# Altium integrated library Analog Devices Operational Amplifiers.IntLib: 2102 symbols (part 38 of 70)
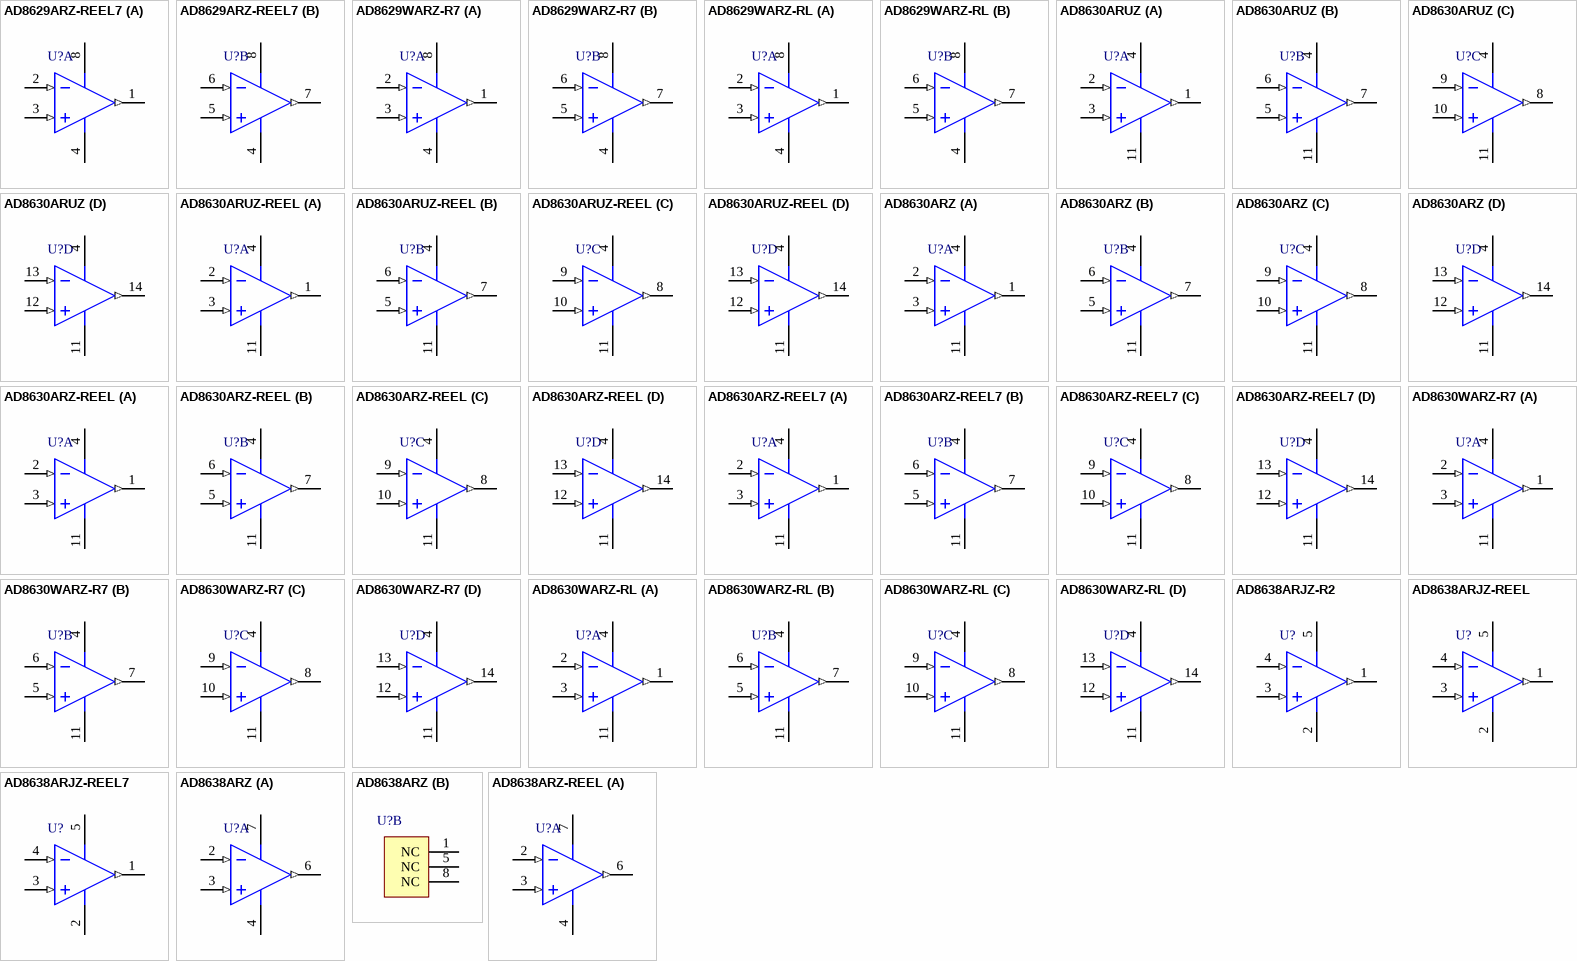
[diagram p151: symbols AD8629ARZ-REEL7 to AD8638ARZ-REEL]

## AD8629WARZ-RL
designator U?
Double Channel RRIO Operational Amplifier, 2.5 MHz BW, 1 V/us SR, Automotive, 8-pin SOIC (R-8), Reel; Generic Part Number: AD8629; Manufacturer: Analog Devices; PartNumber: AD8629WARZ-RL; Amplifiers Per Package: 2; Automotive Qualified: Yes; Input Bias Current: 30pA; Input Offset Voltage: 1uV; Iq/Amp: 1.1mA; Slew Rate: 1V/us; Small Signal Bandwidth: 2.5MHz; V Span Max: 6V; V Span Min: 2.7V; DatasheetVersion: Rev. I; PackageVersion: 060506-A; PackageReference: R-8; PackageDescription: 8-Pin Standard Small Outline Package, Body 3.9 x 4.9 mm, Pitch 1.27 mm; Supplier 1: Digi-Key; Supplier Part Number 1: AD8629WARZ-RL-ND; Mounting Technology: Surface Mount; Code_JEDEC: MS-012-AA; ComponentLink1Description: Manufacturer URL; ComponentLink1URL: http://www.analog.com/en/index.html; ComponentLink2Description: Datasheet; ComponentLink2URL: http://www.analog.com/static/imported-files/data_sheets/AD8628_8629_8630.pdf; ComponentLink3Description: Package Specification; ComponentLink3URL: http://www.analog.com/static/imported-files/packages/PKG_PDF/SOIC_Narrow%20(R)/R_8.pdf; ComponentLink4Description: Reference Circuit; ComponentLink4URL: http://www.analog.com/en/all-operational-amplifiers-op-amps/operational-amplifiers-op-amps/ad8629/products/product.html#product-recommendations
footprint ADI-R-8_N (SOIC, 8-Leads, Body 4.9x3.9mm, Pitch 1.27mm, IPC Medium Density)
footprint ADI-R-8_L (SOIC, 8-Leads, Body 4.9x3.9mm, Pitch 1.27mm, IPC High Density)
footprint ADI-R-8_M (SOIC, 8-Leads, Body 4.9x3.9mm, Pitch 1.27mm, IPC Low Density)
pins on every part: 4 -V (power), 8 +V (power)
part A pins: 1 OUT A (out), 2 -IN A (in), 3 +IN A (in)
part B pins: 5 +IN B (in), 6 -IN B (in), 7 OUT B (out)

## AD8630ARUZ
designator U?
Quad Channel RRIO Operational Amplifier, 2.5 MHz BW, 1 V/us SR, Industrial, 14-pin SOP (RU-14), Tube; Generic Part Number: AD8630; Manufacturer: Analog Devices; PartNumber: AD8630ARUZ; Amplifiers Per Package: 4; Automotive Qualified: Yes; Input Bias Current: 100pA; Input Offset Voltage: 1uV; Iq/Amp: 1.1mA; Slew Rate: 1V/us; Small Signal Bandwidth: 2.5MHz; V Span Max: 6V; V Span Min: 2.7V; DatasheetVersion: Rev. I; PackageReference: RU-14; PackageDescription: 14-Pin Thin Shrink Small Outline Package, Body 5 x 4.4 mm, Pitch 0.65 mm; Supplier 1: Digi-Key; Supplier Part Number 1: AD8630ARUZ-ND; Supplier 2: Farnell; Supplier Part Number 2: 1078274; Supplier 3: Newark; Supplier Part Number 3: 19M0982; Mounting Technology: Surface Mount; Code_JEDEC: MO-153AB-1; ComponentLink1Description: Manufacturer URL; ComponentLink1URL: http://www.analog.com/en/index.html; ComponentLink2Description: Datasheet; ComponentLink2URL: http://www.analog.com/static/imported-files/data_sheets/AD8628_8629_8630.pdf; ComponentLink3Description: Package Specification; ComponentLink3URL: http://www.analog.com/static/imported-files/packages/36057385283879153717235186773RU14.pdf
footprint ADI-RU-14_N (SOP, 14-Leads, Body 5x4.4mm, Pitch 0.65mm, IPC Medium Density)
footprint ADI-RU-14_L (SOP, 14-Leads, Body 5x4.4mm, Pitch 0.65mm, IPC High Density)
footprint ADI-RU-14_M (SOP, 14-Leads, Body 5x4.4mm, Pitch 0.65mm, IPC Low Density)
pins on every part: 4 +V (power), 11 -V (power)
part A pins: 1 OUT A (out), 2 -IN A (in), 3 +IN A (in)
part B pins: 5 +IN B (in), 6 -IN B (in), 7 OUT B (out)
part C pins: 8 OUT C (out), 9 -IN C (in), 10 +IN C (in)
part D pins: 12 +IN D (in), 13 -IN D (in), 14 OUT D (out)

## AD8630ARUZ-REEL
designator U?
Quad Channel RRIO Operational Amplifier, 2.5 MHz BW, 1 V/us SR, Industrial, 14-pin SOP (RU-14), Reel; Generic Part Number: AD8630; Manufacturer: Analog Devices; PartNumber: AD8630ARUZ-REEL; Amplifiers Per Package: 4; Automotive Qualified: Yes; Input Bias Current: 100pA; Input Offset Voltage: 1uV; Iq/Amp: 1.1mA; Slew Rate: 1V/us; Small Signal Bandwidth: 2.5MHz; V Span Max: 6V; V Span Min: 2.7V; DatasheetVersion: Rev. I; PackageReference: RU-14; PackageDescription: 14-Pin Thin Shrink Small Outline Package, Body 5 x 4.4 mm, Pitch 0.65 mm; Supplier 1: Digi-Key; Supplier Part Number 1: AD8630ARUZ-REELTR-ND; Supplier 2: Digi-Key; Supplier Part Number 2: AD8630ARUZ-REELCT-ND; Supplier 3: Digi-Key; Supplier Part Number 3: AD8630ARUZ-REELDKR-ND; Supplier 4: Newark; Supplier Part Number 4: 59K7009; Mounting Technology: Surface Mount; Code_JEDEC: MO-153AB-1; ComponentLink1Description: Manufacturer URL; ComponentLink1URL: http://www.analog.com/en/index.html; ComponentLink2Description: Datasheet; ComponentLink2URL: http://www.analog.com/static/imported-files/data_sheets/AD8628_8629_8630.pdf; ComponentLink3Description: Package Specification; ComponentLink3URL: http://www.analog.com/static/imported-files/packages/36057385283879153717235186773RU14.pdf
footprint ADI-RU-14_N (SOP, 14-Leads, Body 5x4.4mm, Pitch 0.65mm, IPC Medium Density)
footprint ADI-RU-14_L (SOP, 14-Leads, Body 5x4.4mm, Pitch 0.65mm, IPC High Density)
footprint ADI-RU-14_M (SOP, 14-Leads, Body 5x4.4mm, Pitch 0.65mm, IPC Low Density)
pins on every part: 4 +V (power), 11 -V (power)
part A pins: 1 OUT A (out), 2 -IN A (in), 3 +IN A (in)
part B pins: 5 +IN B (in), 6 -IN B (in), 7 OUT B (out)
part C pins: 8 OUT C (out), 9 -IN C (in), 10 +IN C (in)
part D pins: 12 +IN D (in), 13 -IN D (in), 14 OUT D (out)

## AD8630ARZ
designator U?
Quad Channel RRIO Operational Amplifier, 2.5 MHz BW, 1 V/us SR, Industrial, 14-pin SOIC (R-14), Tube; Generic Part Number: AD8630; Manufacturer: Analog Devices; PartNumber: AD8630ARZ; Amplifiers Per Package: 4; Automotive Qualified: Yes; Input Bias Current: 100pA; Input Offset Voltage: 1uV; Iq/Amp: 1.1mA; Slew Rate: 1V/us; Small Signal Bandwidth: 2.5MHz; V Span Max: 6V; V Span Min: 2.7V; DatasheetVersion: Rev. I; PackageVersion: 060606-A; PackageReference: R-14; PackageDescription: 14-Pin Standard Small Outline Package, Body 8.65 x 3.9 mm, Pitch 1.27 mm; Supplier 1: Digi-Key; Supplier Part Number 1: AD8630ARZ-ND; Supplier 2: Farnell; Supplier Part Number 2: 1078275; Supplier 3: Newark; Supplier Part Number 3: 19M0983; Mounting Technology: Surface Mount; Code_JEDEC: MS-012-AB; ComponentLink1Description: Manufacturer URL; ComponentLink1URL: http://www.analog.com/en/index.html; ComponentLink2Description: Datasheet; ComponentLink2URL: http://www.analog.com/static/imported-files/data_sheets/AD8628_8629_8630.pdf; ComponentLink3Description: Package Specification; ComponentLink3URL: http://www.analog.com/static/imported-files/packages/PKG_PDF/SOIC_Narrow%20(R)/R_14.pdf
footprint ADI-R-14_N (SOIC, 14-Leads, Body 8.65x3.9mm, Pitch 1.27mm, IPC Medium Density)
footprint ADI-R-14_L (SOIC, 14-Leads, Body 8.65x3.9mm, Pitch 1.27mm, IPC High Density)
footprint ADI-R-14_M (SOIC, 14-Leads, Body 8.65x3.9mm, Pitch 1.27mm, IPC Low Density)
pins on every part: 4 +V (power), 11 -V (power)
part A pins: 1 OUT A (out), 2 -IN A (in), 3 +IN A (in)
part B pins: 5 +IN B (in), 6 -IN B (in), 7 OUT B (out)
part C pins: 8 OUT C (out), 9 -IN C (in), 10 +IN C (in)
part D pins: 12 +IN D (in), 13 -IN D (in), 14 OUT D (out)

## AD8630ARZ-REEL
designator U?
Quad Channel RRIO Operational Amplifier, 2.5 MHz BW, 1 V/us SR, Industrial, 14-pin SOIC (R-14), Reel; Generic Part Number: AD8630; Manufacturer: Analog Devices; PartNumber: AD8630ARZ-REEL; Amplifiers Per Package: 4; Automotive Qualified: Yes; Input Bias Current: 100pA; Input Offset Voltage: 1uV; Iq/Amp: 1.1mA; Slew Rate: 1V/us; Small Signal Bandwidth: 2.5MHz; V Span Max: 6V; V Span Min: 2.7V; DatasheetVersion: Rev. I; PackageVersion: 060606-A; PackageReference: R-14; PackageDescription: 14-Pin Standard Small Outline Package, Body 8.65 x 3.9 mm, Pitch 1.27 mm; Supplier 1: Digi-Key; Supplier Part Number 1: AD8630ARZ-REEL-ND; Mounting Technology: Surface Mount; Code_JEDEC: MS-012-AB; ComponentLink1Description: Manufacturer URL; ComponentLink1URL: http://www.analog.com/en/index.html; ComponentLink2Description: Datasheet; ComponentLink2URL: http://www.analog.com/static/imported-files/data_sheets/AD8628_8629_8630.pdf; ComponentLink3Description: Package Specification; ComponentLink3URL: http://www.analog.com/static/imported-files/packages/PKG_PDF/SOIC_Narrow%20(R)/R_14.pdf
footprint ADI-R-14_N (SOIC, 14-Leads, Body 8.65x3.9mm, Pitch 1.27mm, IPC Medium Density)
footprint ADI-R-14_L (SOIC, 14-Leads, Body 8.65x3.9mm, Pitch 1.27mm, IPC High Density)
footprint ADI-R-14_M (SOIC, 14-Leads, Body 8.65x3.9mm, Pitch 1.27mm, IPC Low Density)
pins on every part: 4 +V (power), 11 -V (power)
part A pins: 1 OUT A (out), 2 -IN A (in), 3 +IN A (in)
part B pins: 5 +IN B (in), 6 -IN B (in), 7 OUT B (out)
part C pins: 8 OUT C (out), 9 -IN C (in), 10 +IN C (in)
part D pins: 12 +IN D (in), 13 -IN D (in), 14 OUT D (out)

## AD8630ARZ-REEL7
designator U?
Quad Channel RRIO Operational Amplifier, 2.5 MHz BW, 1 V/us SR, Industrial, 14-pin SOIC (R-14), Reel; Generic Part Number: AD8630; Manufacturer: Analog Devices; PartNumber: AD8630ARZ-REEL7; Amplifiers Per Package: 4; Automotive Qualified: Yes; Input Bias Current: 100pA; Input Offset Voltage: 1uV; Iq/Amp: 1.1mA; Slew Rate: 1V/us; Small Signal Bandwidth: 2.5MHz; V Span Max: 6V; V Span Min: 2.7V; DatasheetVersion: Rev. I; PackageVersion: 060606-A; PackageReference: R-14; PackageDescription: 14-Pin Standard Small Outline Package, Body 8.65 x 3.9 mm, Pitch 1.27 mm; Supplier 1: Digi-Key; Supplier Part Number 1: AD8630ARZ-REEL7TR-ND; Supplier 2: Digi-Key; Supplier Part Number 2: AD8630ARZ-REEL7CT-ND; Supplier 3: Digi-Key; Supplier Part Number 3: AD8630ARZ-REEL7DKR-ND; Supplier 4: Newark; Supplier Part Number 4: 59K7012; Mounting Technology: Surface Mount; Code_JEDEC: MS-012-AB; ComponentLink1Description: Manufacturer URL; ComponentLink1URL: http://www.analog.com/en/index.html; ComponentLink2Description: Datasheet; ComponentLink2URL: http://www.analog.com/static/imported-files/data_sheets/AD8628_8629_8630.pdf; ComponentLink3Description: Package Specification; ComponentLink3URL: http://www.analog.com/static/imported-files/packages/PKG_PDF/SOIC_Narrow%20(R)/R_14.pdf
footprint ADI-R-14_N (SOIC, 14-Leads, Body 8.65x3.9mm, Pitch 1.27mm, IPC Medium Density)
footprint ADI-R-14_L (SOIC, 14-Leads, Body 8.65x3.9mm, Pitch 1.27mm, IPC High Density)
footprint ADI-R-14_M (SOIC, 14-Leads, Body 8.65x3.9mm, Pitch 1.27mm, IPC Low Density)
pins on every part: 4 +V (power), 11 -V (power)
part A pins: 1 OUT A (out), 2 -IN A (in), 3 +IN A (in)
part B pins: 5 +IN B (in), 6 -IN B (in), 7 OUT B (out)
part C pins: 8 OUT C (out), 9 -IN C (in), 10 +IN C (in)
part D pins: 12 +IN D (in), 13 -IN D (in), 14 OUT D (out)

## AD8630WARZ-R7
designator U?
Quad Channel RRIO Operational Amplifier, 2.5 MHz BW, 1 V/us SR, Automotive, 14-pin SOIC (R-14), Reel; Generic Part Number: AD8630; Manufacturer: Analog Devices; PartNumber: AD8630WARZ-R7; Amplifiers Per Package: 4; Automotive Qualified: Yes; Input Bias Current: 100pA; Input Offset Voltage: 1uV; Iq/Amp: 1.1mA; Slew Rate: 1V/us; Small Signal Bandwidth: 2.5MHz; V Span Max: 6V; V Span Min: 2.7V; DatasheetVersion: Rev. I; PackageVersion: 060606-A; PackageReference: R-14; PackageDescription: 14-Pin Standard Small Outline Package, Body 8.65 x 3.9 mm, Pitch 1.27 mm; Supplier 1: Digi-Key; Supplier Part Number 1: AD8630WARZ-R7TR-ND; Supplier 2: Digi-Key; Supplier Part Number 2: AD8630WARZ-R7CT-ND; Supplier 3: Digi-Key; Supplier Part Number 3: AD8630WARZ-R7DKR-ND; Supplier 4: Newark; Supplier Part Number 4: 51R0740; Mounting Technology: Surface Mount; Code_JEDEC: MS-012-AB; ComponentLink1Description: Manufacturer URL; ComponentLink1URL: http://www.analog.com/en/index.html; ComponentLink2Description: Datasheet; ComponentLink2URL: http://www.analog.com/static/imported-files/data_sheets/AD8628_8629_8630.pdf; ComponentLink3Description: Package Specification; ComponentLink3URL: http://www.analog.com/static/imported-files/packages/PKG_PDF/SOIC_Narrow%20(R)/R_14.pdf
footprint ADI-R-14_N (SOIC, 14-Leads, Body 8.65x3.9mm, Pitch 1.27mm, IPC Medium Density)
footprint ADI-R-14_L (SOIC, 14-Leads, Body 8.65x3.9mm, Pitch 1.27mm, IPC High Density)
footprint ADI-R-14_M (SOIC, 14-Leads, Body 8.65x3.9mm, Pitch 1.27mm, IPC Low Density)
pins on every part: 4 +V (power), 11 -V (power)
part A pins: 1 OUT A (out), 2 -IN A (in), 3 +IN A (in)
part B pins: 5 +IN B (in), 6 -IN B (in), 7 OUT B (out)
part C pins: 8 OUT C (out), 9 -IN C (in), 10 +IN C (in)
part D pins: 12 +IN D (in), 13 -IN D (in), 14 OUT D (out)

## AD8630WARZ-RL
designator U?
Quad Channel RRIO Operational Amplifier, 2.5 MHz BW, 1 V/us SR, Automotive, 14-pin SOIC (R-14), Reel; Generic Part Number: AD8630; Manufacturer: Analog Devices; PartNumber: AD8630WARZ-RL; Amplifiers Per Package: 4; Automotive Qualified: Yes; Input Bias Current: 100pA; Input Offset Voltage: 1uV; Iq/Amp: 1.1mA; Slew Rate: 1V/us; Small Signal Bandwidth: 2.5MHz; V Span Max: 6V; V Span Min: 2.7V; DatasheetVersion: Rev. I; PackageVersion: 060606-A; PackageReference: R-14; PackageDescription: 14-Pin Standard Small Outline Package, Body 8.65 x 3.9 mm, Pitch 1.27 mm; Supplier 1: Digi-Key; Supplier Part Number 1: AD8630WARZ-RL-ND; Supplier 2: Newark; Supplier Part Number 2: 51R0739; Mounting Technology: Surface Mount; Code_JEDEC: MS-012-AB; ComponentLink1Description: Manufacturer URL; ComponentLink1URL: http://www.analog.com/en/index.html; ComponentLink2Description: Datasheet; ComponentLink2URL: http://www.analog.com/static/imported-files/data_sheets/AD8628_8629_8630.pdf; ComponentLink3Description: Package Specification; ComponentLink3URL: http://www.analog.com/static/imported-files/packages/PKG_PDF/SOIC_Narrow%20(R)/R_14.pdf
footprint ADI-R-14_N (SOIC, 14-Leads, Body 8.65x3.9mm, Pitch 1.27mm, IPC Medium Density)
footprint ADI-R-14_L (SOIC, 14-Leads, Body 8.65x3.9mm, Pitch 1.27mm, IPC High Density)
footprint ADI-R-14_M (SOIC, 14-Leads, Body 8.65x3.9mm, Pitch 1.27mm, IPC Low Density)
pins on every part: 4 +V (power), 11 -V (power)
part A pins: 1 OUT A (out), 2 -IN A (in), 3 +IN A (in)
part B pins: 5 +IN B (in), 6 -IN B (in), 7 OUT B (out)
part C pins: 8 OUT C (out), 9 -IN C (in), 10 +IN C (in)
part D pins: 12 +IN D (in), 13 -IN D (in), 14 OUT D (out)

## AD8638ARJZ-R2
designator U?
Single Channel Rail-to-Rail Operational Amplifier, 1.5 MHz BW, 2 V/us SR, Industrial, 5-pin SOT23 (RJ-5), Reel; Generic Part Number: AD8638; Manufacturer: Analog Devices; PartNumber: AD8638ARJZ-R2; Amplifiers Per Package: 1; Input Bias Current: 1pA; Input Offset Voltage: 3uV; Iq/Amp: 1.5mA; Slew Rate: 2V/us; Small Signal Bandwidth: 1.5MHz; V Span Max: 16V; V Span Min: 5V; DatasheetVersion: Rev. F; PackageVersion: 121608-A; PackageReference: RJ-5; PackageDescription: 5-Pin Small Outline Transistor Package, Body 2.9 x 1.6 mm, Pitch 0.95 mm; Supplier 1: Digi-Key; Supplier Part Number 1: AD8638ARJZ-R2TR-ND; Supplier 2: Digi-Key; Supplier Part Number 2: AD8638ARJZ-R2CT-ND; Supplier 3: Digi-Key; Supplier Part Number 3: AD8638ARJZ-R2DKR-ND; Supplier 4: Farnell; Supplier Part Number 4: 1701178; Supplier 5: Newark; Supplier Part Number 5: 89M5025; Mounting Technology: Surface Mount; Code_JEDEC: MO-178-AA; ComponentLink1Description: Manufacturer URL; ComponentLink1URL: http://www.analog.com/en/index.html; ComponentLink2Description: Datasheet; ComponentLink2URL: http://www.analog.com/static/imported-files/data_sheets/AD8638_8639.pdf; ComponentLink3Description: Package Specification; ComponentLink3URL: http://www.analog.com/static/imported-files/packages/PKG_PDF/SOT-23(RJ)/RJ_5.pdf; ComponentLink4Description: Reference Circuit; ComponentLink4URL: http://www.analog.com/en/all-operational-amplifiers-op-amps/operational-amplifiers-op-amps/ad8638/products/product.html#product-recommendations
footprint ADI-RJ-5_N (SOT-23, 5-Leads, Body 2.9x1.6mm, Pitch 0.95mm, IPC Medium Density)
footprint ADI-RJ-5_L (SOT-23, 5-Leads, Body 2.9x1.6mm, Pitch 0.95mm, IPC High Density)
footprint ADI-RJ-5_M (SOT-23, 5-Leads, Body 2.9x1.6mm, Pitch 0.95mm, IPC Low Density)
pins: 1 OUT (out), 2 -V (power), 3 +IN (in), 4 -IN (in), 5 +V (power)

## AD8638ARJZ-REEL
designator U?
Single Channel Rail-to-Rail Operational Amplifier, 1.5 MHz BW, 2 V/us SR, Industrial, 5-pin SOT23 (RJ-5), Reel; Generic Part Number: AD8638; Manufacturer: Analog Devices; PartNumber: AD8638ARJZ-REEL; Amplifiers Per Package: 1; Input Bias Current: 1pA; Input Offset Voltage: 3uV; Iq/Amp: 1.5mA; Slew Rate: 2V/us; Small Signal Bandwidth: 1.5MHz; V Span Max: 16V; V Span Min: 5V; DatasheetVersion: Rev. F; PackageVersion: 121608-A; PackageReference: RJ-5; PackageDescription: 5-Pin Small Outline Transistor Package, Body 2.9 x 1.6 mm, Pitch 0.95 mm; Supplier 1: Digi-Key; Supplier Part Number 1: AD8638ARJZ-REEL-ND; Mounting Technology: Surface Mount; Code_JEDEC: MO-178-AA; ComponentLink1Description: Manufacturer URL; ComponentLink1URL: http://www.analog.com/en/index.html; ComponentLink2Description: Datasheet; ComponentLink2URL: http://www.analog.com/static/imported-files/data_sheets/AD8638_8639.pdf; ComponentLink3Description: Package Specification; ComponentLink3URL: http://www.analog.com/static/imported-files/packages/PKG_PDF/SOT-23(RJ)/RJ_5.pdf; ComponentLink4Description: Reference Circuit; ComponentLink4URL: http://www.analog.com/en/all-operational-amplifiers-op-amps/operational-amplifiers-op-amps/ad8638/products/product.html#product-recommendations
footprint ADI-RJ-5_N (SOT-23, 5-Leads, Body 2.9x1.6mm, Pitch 0.95mm, IPC Medium Density)
footprint ADI-RJ-5_L (SOT-23, 5-Leads, Body 2.9x1.6mm, Pitch 0.95mm, IPC High Density)
footprint ADI-RJ-5_M (SOT-23, 5-Leads, Body 2.9x1.6mm, Pitch 0.95mm, IPC Low Density)
pins: 1 OUT (out), 2 -V (power), 3 +IN (in), 4 -IN (in), 5 +V (power)

## AD8638ARJZ-REEL7
designator U?
Single Channel Rail-to-Rail Operational Amplifier, 1.5 MHz BW, 2 V/us SR, Industrial, 5-pin SOT23 (RJ-5), Reel; Generic Part Number: AD8638; Manufacturer: Analog Devices; PartNumber: AD8638ARJZ-REEL7; Amplifiers Per Package: 1; Input Bias Current: 1pA; Input Offset Voltage: 3uV; Iq/Amp: 1.5mA; Slew Rate: 2V/us; Small Signal Bandwidth: 1.5MHz; V Span Max: 16V; V Span Min: 5V; DatasheetVersion: Rev. F; PackageVersion: 121608-A; PackageReference: RJ-5; PackageDescription: 5-Pin Small Outline Transistor Package, Body 2.9 x 1.6 mm, Pitch 0.95 mm; Supplier 1: Digi-Key; Supplier Part Number 1: AD8638ARJZ-REEL7TR-ND; Supplier 2: Digi-Key; Supplier Part Number 2: AD8638ARJZ-REEL7CT-ND; Supplier 3: Digi-Key; Supplier Part Number 3: AD8638ARJZ-REEL7DKR-ND; Supplier 4: Newark; Supplier Part Number 4: 64M7590; Mounting Technology: Surface Mount; Code_JEDEC: MO-178-AA; ComponentLink1Description: Manufacturer URL; ComponentLink1URL: http://www.analog.com/en/index.html; ComponentLink2Description: Datasheet; ComponentLink2URL: http://www.analog.com/static/imported-files/data_sheets/AD8638_8639.pdf; ComponentLink3Description: Package Specification; ComponentLink3URL: http://www.analog.com/static/imported-files/packages/PKG_PDF/SOT-23(RJ)/RJ_5.pdf; ComponentLink4Description: Reference Circuit; ComponentLink4URL: http://www.analog.com/en/all-operational-amplifiers-op-amps/operational-amplifiers-op-amps/ad8638/products/product.html#product-recommendations
footprint ADI-RJ-5_N (SOT-23, 5-Leads, Body 2.9x1.6mm, Pitch 0.95mm, IPC Medium Density)
footprint ADI-RJ-5_L (SOT-23, 5-Leads, Body 2.9x1.6mm, Pitch 0.95mm, IPC High Density)
footprint ADI-RJ-5_M (SOT-23, 5-Leads, Body 2.9x1.6mm, Pitch 0.95mm, IPC Low Density)
pins: 1 OUT (out), 2 -V (power), 3 +IN (in), 4 -IN (in), 5 +V (power)

## AD8638ARZ
designator U?
Single Channel Rail-to-Rail Operational Amplifier, 1.5 MHz BW, 2 V/us SR, Industrial, 8-pin SOIC (R-8), Tube; Generic Part Number: AD8638; Manufacturer: Analog Devices; PartNumber: AD8638ARZ; Amplifiers Per Package: 1; Input Bias Current: 1pA; Input Offset Voltage: 3uV; Iq/Amp: 1.5mA; Slew Rate: 2V/us; Small Signal Bandwidth: 1.5MHz; V Span Max: 16V; V Span Min: 5V; DatasheetVersion: Rev. F; PackageVersion: 060506-A; PackageReference: R-8; PackageDescription: 8-Pin Standard Small Outline Package, Body 3.9 x 4.9 mm, Pitch 1.27 mm; Supplier 1: Digi-Key; Supplier Part Number 1: AD8638ARZ-ND; Supplier 2: Farnell; Supplier Part Number 2: 1607239; Supplier 3: Farnell; Supplier Part Number 3: 2119623; Supplier 4: Newark; Supplier Part Number 4: 64M7591; Mounting Technology: Surface Mount; Code_JEDEC: MS-012-AA; ComponentLink1Description: Manufacturer URL; ComponentLink1URL: http://www.analog.com/en/index.html; ComponentLink2Description: Datasheet; ComponentLink2URL: http://www.analog.com/static/imported-files/data_sheets/AD8638_8639.pdf; ComponentLink3Description: Package Specification; ComponentLink3URL: http://www.analog.com/static/imported-files/packages/PKG_PDF/SOIC_Narrow%20(R)/R_8.pdf; ComponentLink4Description: Reference Circuit; ComponentLink4URL: http://www.analog.com/en/all-operational-amplifiers-op-amps/operational-amplifiers-op-amps/ad8638/products/product.html#product-recommendations
footprint ADI-R-8_N (SOIC, 8-Leads, Body 4.9x3.9mm, Pitch 1.27mm, IPC Medium Density)
footprint ADI-R-8_L (SOIC, 8-Leads, Body 4.9x3.9mm, Pitch 1.27mm, IPC High Density)
footprint ADI-R-8_M (SOIC, 8-Leads, Body 4.9x3.9mm, Pitch 1.27mm, IPC Low Density)
part A pins: 2 -IN (in), 3 +IN (in), 4 -V (power), 6 OUT (out), 7 +V (power)
part B pins: 1 NC, 5 NC, 8 NC

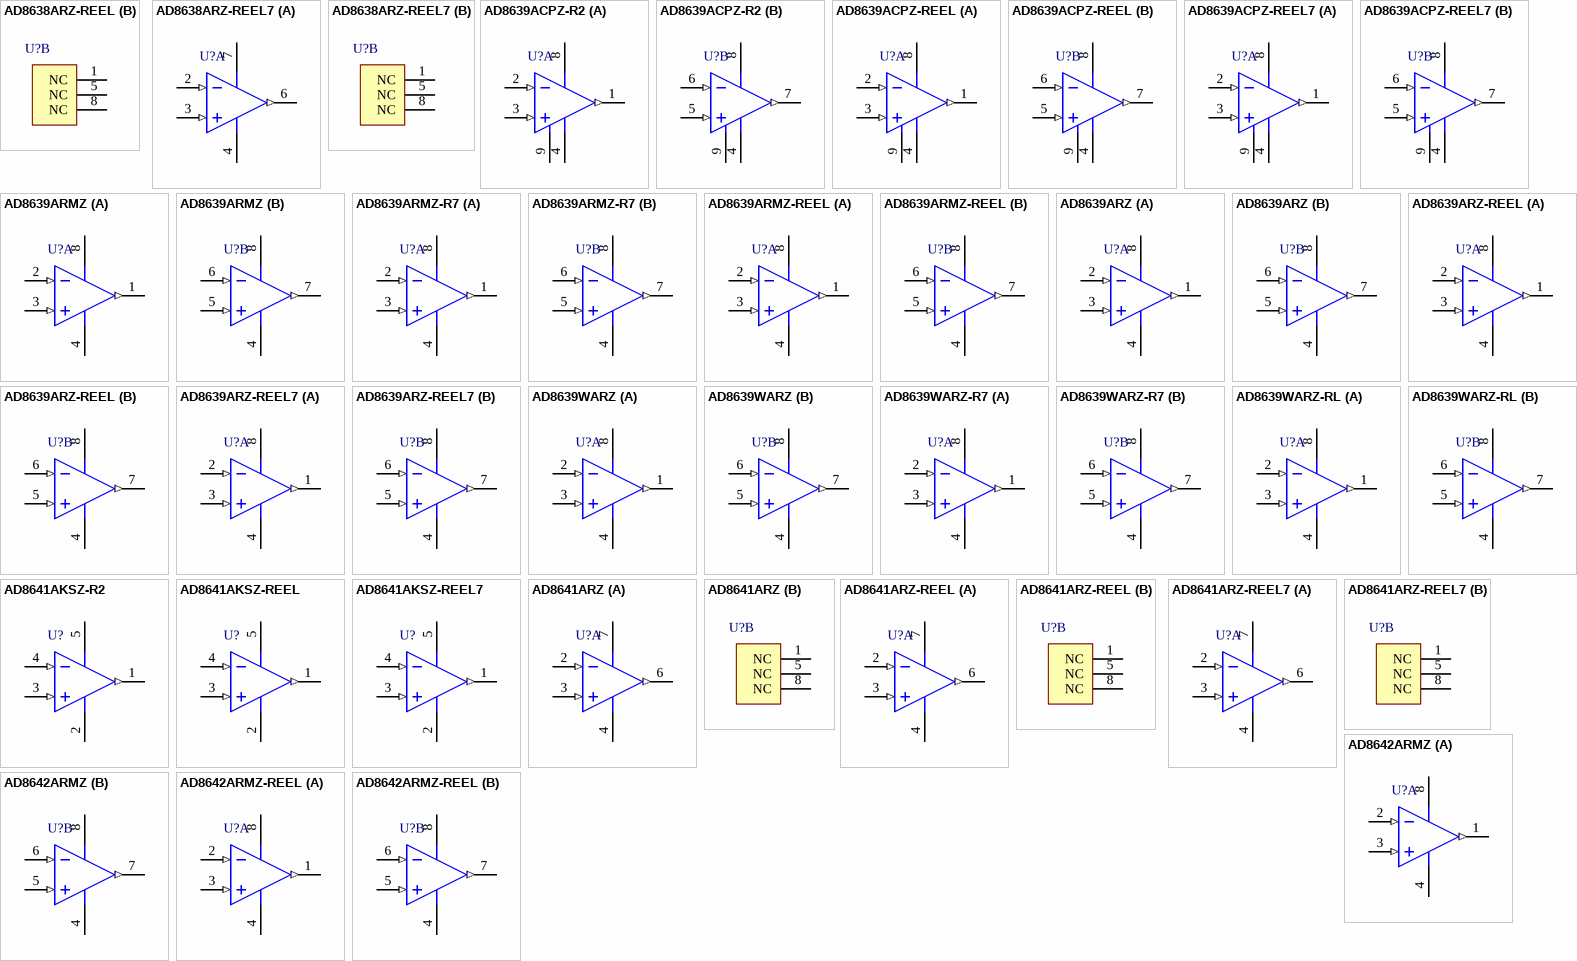
[diagram p58: symbols AD8638ARZ-REEL to AD8642ARMZ-REEL]

## AD8638ARZ-REEL
designator U?
Single Channel Rail-to-Rail Operational Amplifier, 1.5 MHz BW, 2 V/us SR, Industrial, 8-pin SOIC (R-8), Reel; Generic Part Number: AD8638; Manufacturer: Analog Devices; PartNumber: AD8638ARZ-REEL; Amplifiers Per Package: 1; Input Bias Current: 1pA; Input Offset Voltage: 3uV; Iq/Amp: 1.5mA; Slew Rate: 2V/us; Small Signal Bandwidth: 1.5MHz; V Span Max: 16V; V Span Min: 5V; DatasheetVersion: Rev. F; PackageVersion: 060506-A; PackageReference: R-8; PackageDescription: 8-Pin Standard Small Outline Package, Body 3.9 x 4.9 mm, Pitch 1.27 mm; Supplier 1: Digi-Key; Supplier Part Number 1: AD8638ARZ-REEL-ND; Mounting Technology: Surface Mount; Code_JEDEC: MS-012-AA; ComponentLink1Description: Manufacturer URL; ComponentLink1URL: http://www.analog.com/en/index.html; ComponentLink2Description: Datasheet; ComponentLink2URL: http://www.analog.com/static/imported-files/data_sheets/AD8638_8639.pdf; ComponentLink3Description: Package Specification; ComponentLink3URL: http://www.analog.com/static/imported-files/packages/PKG_PDF/SOIC_Narrow%20(R)/R_8.pdf; ComponentLink4Description: Reference Circuit; ComponentLink4URL: http://www.analog.com/en/all-operational-amplifiers-op-amps/operational-amplifiers-op-amps/ad8638/products/product.html#product-recommendations
footprint ADI-R-8_N (SOIC, 8-Leads, Body 4.9x3.9mm, Pitch 1.27mm, IPC Medium Density)
footprint ADI-R-8_L (SOIC, 8-Leads, Body 4.9x3.9mm, Pitch 1.27mm, IPC High Density)
footprint ADI-R-8_M (SOIC, 8-Leads, Body 4.9x3.9mm, Pitch 1.27mm, IPC Low Density)
part A pins: 2 -IN (in), 3 +IN (in), 4 -V (power), 6 OUT (out), 7 +V (power)
part B pins: 1 NC, 5 NC, 8 NC

## AD8638ARZ-REEL7
designator U?
Single Channel Rail-to-Rail Operational Amplifier, 1.5 MHz BW, 2 V/us SR, Industrial, 8-pin SOIC (R-8), Reel; Generic Part Number: AD8638; Manufacturer: Analog Devices; PartNumber: AD8638ARZ-REEL7; Amplifiers Per Package: 1; Input Bias Current: 1pA; Input Offset Voltage: 3uV; Iq/Amp: 1.5mA; Slew Rate: 2V/us; Small Signal Bandwidth: 1.5MHz; V Span Max: 16V; V Span Min: 5V; DatasheetVersion: Rev. F; PackageVersion: 060506-A; PackageReference: R-8; PackageDescription: 8-Pin Standard Small Outline Package, Body 3.9 x 4.9 mm, Pitch 1.27 mm; Supplier 1: Digi-Key; Supplier Part Number 1: AD8638ARZ-REEL7TR-ND; Supplier 2: Digi-Key; Supplier Part Number 2: AD8638ARZ-REEL7CT-ND; Supplier 3: Digi-Key; Supplier Part Number 3: AD8638ARZ-REEL7DKR-ND; Mounting Technology: Surface Mount; Code_JEDEC: MS-012-AA; ComponentLink1Description: Manufacturer URL; ComponentLink1URL: http://www.analog.com/en/index.html; ComponentLink2Description: Datasheet; ComponentLink2URL: http://www.analog.com/static/imported-files/data_sheets/AD8638_8639.pdf; ComponentLink3Description: Package Specification; ComponentLink3URL: http://www.analog.com/static/imported-files/packages/PKG_PDF/SOIC_Narrow%20(R)/R_8.pdf; ComponentLink4Description: Reference Circuit; ComponentLink4URL: http://www.analog.com/en/all-operational-amplifiers-op-amps/operational-amplifiers-op-amps/ad8638/products/product.html#product-recommendations
footprint ADI-R-8_N (SOIC, 8-Leads, Body 4.9x3.9mm, Pitch 1.27mm, IPC Medium Density)
footprint ADI-R-8_L (SOIC, 8-Leads, Body 4.9x3.9mm, Pitch 1.27mm, IPC High Density)
footprint ADI-R-8_M (SOIC, 8-Leads, Body 4.9x3.9mm, Pitch 1.27mm, IPC Low Density)
part A pins: 2 -IN (in), 3 +IN (in), 4 -V (power), 6 OUT (out), 7 +V (power)
part B pins: 1 NC, 5 NC, 8 NC

## AD8639ACPZ-R2
designator U?
Double Channel Rail-to-Rail Operational Amplifier, 1.5 MHz BW, 2 V/us SR, Industrial, 8-pin SON (CP-8-5), Reel; Generic Part Number: AD8639; Manufacturer: Analog Devices; PartNumber: AD8639ACPZ-R2; Amplifiers Per Package: 2; Automotive Qualified: Yes; Input Bias Current: 1pA; Input Offset Voltage: 3uV; Iq/Amp: 1.5mA; Slew Rate: 2V/us; Small Signal Bandwidth: 1.5MHz; V Span Max: 16V; V Span Min: 5V; DatasheetVersion: Rev. F; PackageVersion: 031208-A; PackageReference: CP-8-5; PackageDescription: 8-Pin Lead Frame Chip Scale Package, Body 3 x 3 mm, Pitch 0.5 mm; Supplier 1: Digi-Key; Supplier Part Number 1: AD8639ACPZ-R2-ND; Mounting Technology: Surface Mount; ComponentLink1Description: Manufacturer URL; ComponentLink1URL: http://www.analog.com/en/index.html; ComponentLink2Description: Datasheet; ComponentLink2URL: http://www.analog.com/static/imported-files/data_sheets/AD8638_8639.pdf; ComponentLink3Description: Package Specification; ComponentLink3URL: http://www.analog.com/static/imported-files/packages/PKG_PDF/LFCSP(CP)/CP_8_5.pdf
footprint ADI-CP-8-5_V (SON, 8-Leads, Body 3x3mm, Pitch 0.5mm, Thermal Pad 1.74x2.38mm)
pins on every part: 4 -V (power), 8 +V (power), 9 EP (power)
part A pins: 1 OUT A (out), 2 -IN A (in), 3 +IN A (in)
part B pins: 5 +IN B (in), 6 -IN B (in), 7 OUT B (out)

## AD8639ACPZ-REEL
designator U?
Double Channel Rail-to-Rail Operational Amplifier, 1.5 MHz BW, 2 V/us SR, Industrial, 8-pin SON (CP-8-5), Reel; Generic Part Number: AD8639; Manufacturer: Analog Devices; PartNumber: AD8639ACPZ-REEL; Amplifiers Per Package: 2; Automotive Qualified: Yes; Input Bias Current: 1pA; Input Offset Voltage: 3uV; Iq/Amp: 1.5mA; Slew Rate: 2V/us; Small Signal Bandwidth: 1.5MHz; V Span Max: 16V; V Span Min: 5V; DatasheetVersion: Rev. F; PackageVersion: 031208-A; PackageReference: CP-8-5; PackageDescription: 8-Pin Lead Frame Chip Scale Package, Body 3 x 3 mm, Pitch 0.5 mm; Supplier 1: Digi-Key; Supplier Part Number 1: AD8639ACPZ-REEL-ND; Mounting Technology: Surface Mount; ComponentLink1Description: Manufacturer URL; ComponentLink1URL: http://www.analog.com/en/index.html; ComponentLink2Description: Datasheet; ComponentLink2URL: http://www.analog.com/static/imported-files/data_sheets/AD8638_8639.pdf; ComponentLink3Description: Package Specification; ComponentLink3URL: http://www.analog.com/static/imported-files/packages/PKG_PDF/LFCSP(CP)/CP_8_5.pdf
footprint ADI-CP-8-5_V (SON, 8-Leads, Body 3x3mm, Pitch 0.5mm, Thermal Pad 1.74x2.38mm)
pins on every part: 4 -V (power), 8 +V (power), 9 EP (power)
part A pins: 1 OUT A (out), 2 -IN A (in), 3 +IN A (in)
part B pins: 5 +IN B (in), 6 -IN B (in), 7 OUT B (out)

## AD8639ACPZ-REEL7
designator U?
Double Channel Rail-to-Rail Operational Amplifier, 1.5 MHz BW, 2 V/us SR, Industrial, 8-pin SON (CP-8-5), Reel; Generic Part Number: AD8639; Manufacturer: Analog Devices; PartNumber: AD8639ACPZ-REEL7; Amplifiers Per Package: 2; Automotive Qualified: Yes; Input Bias Current: 1pA; Input Offset Voltage: 3uV; Iq/Amp: 1.5mA; Slew Rate: 2V/us; Small Signal Bandwidth: 1.5MHz; V Span Max: 16V; V Span Min: 5V; DatasheetVersion: Rev. F; PackageVersion: 031208-A; PackageReference: CP-8-5; PackageDescription: 8-Pin Lead Frame Chip Scale Package, Body 3 x 3 mm, Pitch 0.5 mm; Supplier 1: Digi-Key; Supplier Part Number 1: AD8639ACPZ-REEL7TR-ND; Supplier 2: Digi-Key; Supplier Part Number 2: AD8639ACPZ-REEL7CT-ND; Supplier 3: Digi-Key; Supplier Part Number 3: AD8639ACPZ-REEL7DKR-ND; Mounting Technology: Surface Mount; ComponentLink1Description: Manufacturer URL; ComponentLink1URL: http://www.analog.com/en/index.html; ComponentLink2Description: Datasheet; ComponentLink2URL: http://www.analog.com/static/imported-files/data_sheets/AD8638_8639.pdf; ComponentLink3Description: Package Specification; ComponentLink3URL: http://www.analog.com/static/imported-files/packages/PKG_PDF/LFCSP(CP)/CP_8_5.pdf
footprint ADI-CP-8-5_V (SON, 8-Leads, Body 3x3mm, Pitch 0.5mm, Thermal Pad 1.74x2.38mm)
pins on every part: 4 -V (power), 8 +V (power), 9 EP (power)
part A pins: 1 OUT A (out), 2 -IN A (in), 3 +IN A (in)
part B pins: 5 +IN B (in), 6 -IN B (in), 7 OUT B (out)

## AD8639ARMZ
designator U?
Double Channel Rail-to-Rail Operational Amplifier, 1.5 MHz BW, 2 V/us SR, Industrial, 8-pin SOP (RM-8), Tube; Generic Part Number: AD8639; Manufacturer: Analog Devices; PartNumber: AD8639ARMZ; Amplifiers Per Package: 2; Automotive Qualified: Yes; Input Bias Current: 1pA; Input Offset Voltage: 3uV; Iq/Amp: 1.5mA; Slew Rate: 2V/us; Small Signal Bandwidth: 1.5MHz; V Span Max: 16V; V Span Min: 5V; DatasheetVersion: Rev. F; PackageReference: RM-8; PackageDescription: 8-Pin Mini Small Outline Package, Body 3 x 3 mm, Pitch 0.65 mm; Supplier 1: Digi-Key; Supplier Part Number 1: AD8639ARMZ-ND; Supplier 2: Newark; Supplier Part Number 2: 34P3248; Mounting Technology: Surface Mount; Code_JEDEC: MO-187-AA; ComponentLink1Description: Manufacturer URL; ComponentLink1URL: http://www.analog.com/en/index.html; ComponentLink2Description: Datasheet; ComponentLink2URL: http://www.analog.com/static/imported-files/data_sheets/AD8638_8639.pdf; ComponentLink3Description: Package Specification; ComponentLink3URL: http://www.analog.com/static/imported-files/packages/PKG_PDF/MSOP%28RM%29/RM_8.pdf
footprint ADI-RM-8_N (SOP, 8-Leads, Body 3x3mm, Pitch 0.65mm, IPC Medium Density)
footprint ADI-RM-8_L (SOP, 8-Leads, Body 3x3mm, Pitch 0.65mm, IPC High Density)
footprint ADI-RM-8_M (SOP, 8-Leads, Body 3x3mm, Pitch 0.65mm, IPC Low Density)
pins on every part: 4 -V (power), 8 +V (power)
part A pins: 1 OUT A (out), 2 -IN A (in), 3 +IN A (in)
part B pins: 5 +IN B (in), 6 -IN B (in), 7 OUT B (out)

## AD8639ARMZ-R7
designator U?
Double Channel Rail-to-Rail Operational Amplifier, 1.5 MHz BW, 2 V/us SR, Industrial, 8-pin SOP (RM-8), Reel; Generic Part Number: AD8639; Manufacturer: Analog Devices; PartNumber: AD8639ARMZ-R7; Amplifiers Per Package: 2; Automotive Qualified: Yes; Input Bias Current: 1pA; Input Offset Voltage: 3uV; Iq/Amp: 1.5mA; Slew Rate: 2V/us; Small Signal Bandwidth: 1.5MHz; V Span Max: 16V; V Span Min: 5V; DatasheetVersion: Rev. F; PackageReference: RM-8; PackageDescription: 8-Pin Mini Small Outline Package, Body 3 x 3 mm, Pitch 0.65 mm; Supplier 1: Digi-Key; Supplier Part Number 1: AD8639ARMZ-R7-ND; Mounting Technology: Surface Mount; Code_JEDEC: MO-187-AA; ComponentLink1Description: Manufacturer URL; ComponentLink1URL: http://www.analog.com/en/index.html; ComponentLink2Description: Datasheet; ComponentLink2URL: http://www.analog.com/static/imported-files/data_sheets/AD8638_8639.pdf; ComponentLink3Description: Package Specification; ComponentLink3URL: http://www.analog.com/static/imported-files/packages/PKG_PDF/MSOP%28RM%29/RM_8.pdf
footprint ADI-RM-8_N (SOP, 8-Leads, Body 3x3mm, Pitch 0.65mm, IPC Medium Density)
footprint ADI-RM-8_L (SOP, 8-Leads, Body 3x3mm, Pitch 0.65mm, IPC High Density)
footprint ADI-RM-8_M (SOP, 8-Leads, Body 3x3mm, Pitch 0.65mm, IPC Low Density)
pins on every part: 4 -V (power), 8 +V (power)
part A pins: 1 OUT A (out), 2 -IN A (in), 3 +IN A (in)
part B pins: 5 +IN B (in), 6 -IN B (in), 7 OUT B (out)

## AD8639ARMZ-REEL
designator U?
Double Channel Rail-to-Rail Operational Amplifier, 1.5 MHz BW, 2 V/us SR, Industrial, 8-pin SOP (RM-8), Reel; Generic Part Number: AD8639; Manufacturer: Analog Devices; PartNumber: AD8639ARMZ-REEL; Amplifiers Per Package: 2; Automotive Qualified: Yes; Input Bias Current: 1pA; Input Offset Voltage: 3uV; Iq/Amp: 1.5mA; Slew Rate: 2V/us; Small Signal Bandwidth: 1.5MHz; V Span Max: 16V; V Span Min: 5V; DatasheetVersion: Rev. F; PackageReference: RM-8; PackageDescription: 8-Pin Mini Small Outline Package, Body 3 x 3 mm, Pitch 0.65 mm; Supplier 1: Digi-Key; Supplier Part Number 1: AD8639ARMZ-REELTR-ND; Supplier 2: Digi-Key; Supplier Part Number 2: AD8639ARMZ-REELCT-ND; Supplier 3: Digi-Key; Supplier Part Number 3: AD8639ARMZ-REELDKR-ND; Supplier 4: Newark; Supplier Part Number 4: 11N8882; Mounting Technology: Surface Mount; Code_JEDEC: MO-187-AA; ComponentLink1Description: Manufacturer URL; ComponentLink1URL: http://www.analog.com/en/index.html; ComponentLink2Description: Datasheet; ComponentLink2URL: http://www.analog.com/static/imported-files/data_sheets/AD8638_8639.pdf; ComponentLink3Description: Package Specification; ComponentLink3URL: http://www.analog.com/static/imported-files/packages/PKG_PDF/MSOP%28RM%29/RM_8.pdf
footprint ADI-RM-8_N (SOP, 8-Leads, Body 3x3mm, Pitch 0.65mm, IPC Medium Density)
footprint ADI-RM-8_L (SOP, 8-Leads, Body 3x3mm, Pitch 0.65mm, IPC High Density)
footprint ADI-RM-8_M (SOP, 8-Leads, Body 3x3mm, Pitch 0.65mm, IPC Low Density)
pins on every part: 4 -V (power), 8 +V (power)
part A pins: 1 OUT A (out), 2 -IN A (in), 3 +IN A (in)
part B pins: 5 +IN B (in), 6 -IN B (in), 7 OUT B (out)

## AD8639ARZ
designator U?
Double Channel Rail-to-Rail Operational Amplifier, 1.5 MHz BW, 2 V/us SR, Industrial, 8-pin SOIC (R-8), Tube; Generic Part Number: AD8639; Manufacturer: Analog Devices; PartNumber: AD8639ARZ; Amplifiers Per Package: 2; Automotive Qualified: Yes; Input Bias Current: 1pA; Input Offset Voltage: 3uV; Iq/Amp: 1.5mA; Slew Rate: 2V/us; Small Signal Bandwidth: 1.5MHz; V Span Max: 16V; V Span Min: 5V; DatasheetVersion: Rev. F; PackageVersion: 060506-A; PackageReference: R-8; PackageDescription: 8-Pin Standard Small Outline Package, Body 3.9 x 4.9 mm, Pitch 1.27 mm; Supplier 1: Digi-Key; Supplier Part Number 1: AD8639ARZ-ND; Supplier 2: Farnell; Supplier Part Number 2: 2067779; Supplier 3: Newark; Supplier Part Number 3: 73T8202; Supplier 4: Newark; Supplier Part Number 4: 11N8884; Mounting Technology: Surface Mount; Code_JEDEC: MS-012-AA; ComponentLink1Description: Manufacturer URL; ComponentLink1URL: http://www.analog.com/en/index.html; ComponentLink2Description: Datasheet; ComponentLink2URL: http://www.analog.com/static/imported-files/data_sheets/AD8638_8639.pdf; ComponentLink3Description: Package Specification; ComponentLink3URL: http://www.analog.com/static/imported-files/packages/PKG_PDF/SOIC_Narrow%20(R)/R_8.pdf
footprint ADI-R-8_N (SOIC, 8-Leads, Body 4.9x3.9mm, Pitch 1.27mm, IPC Medium Density)
footprint ADI-R-8_L (SOIC, 8-Leads, Body 4.9x3.9mm, Pitch 1.27mm, IPC High Density)
footprint ADI-R-8_M (SOIC, 8-Leads, Body 4.9x3.9mm, Pitch 1.27mm, IPC Low Density)
pins on every part: 4 -V (power), 8 +V (power)
part A pins: 1 OUT A (out), 2 -IN A (in), 3 +IN A (in)
part B pins: 5 +IN B (in), 6 -IN B (in), 7 OUT B (out)

## AD8639ARZ-REEL
designator U?
Double Channel Rail-to-Rail Operational Amplifier, 1.5 MHz BW, 2 V/us SR, Industrial, 8-pin SOIC (R-8), Reel; Generic Part Number: AD8639; Manufacturer: Analog Devices; PartNumber: AD8639ARZ-REEL; Amplifiers Per Package: 2; Automotive Qualified: Yes; Input Bias Current: 1pA; Input Offset Voltage: 3uV; Iq/Amp: 1.5mA; Slew Rate: 2V/us; Small Signal Bandwidth: 1.5MHz; V Span Max: 16V; V Span Min: 5V; DatasheetVersion: Rev. F; PackageVersion: 060506-A; PackageReference: R-8; PackageDescription: 8-Pin Standard Small Outline Package, Body 3.9 x 4.9 mm, Pitch 1.27 mm; Supplier 1: Digi-Key; Supplier Part Number 1: AD8639ARZ-REEL-ND; Mounting Technology: Surface Mount; Code_JEDEC: MS-012-AA; ComponentLink1Description: Manufacturer URL; ComponentLink1URL: http://www.analog.com/en/index.html; ComponentLink2Description: Datasheet; ComponentLink2URL: http://www.analog.com/static/imported-files/data_sheets/AD8638_8639.pdf; ComponentLink3Description: Package Specification; ComponentLink3URL: http://www.analog.com/static/imported-files/packages/PKG_PDF/SOIC_Narrow%20(R)/R_8.pdf
footprint ADI-R-8_N (SOIC, 8-Leads, Body 4.9x3.9mm, Pitch 1.27mm, IPC Medium Density)
footprint ADI-R-8_L (SOIC, 8-Leads, Body 4.9x3.9mm, Pitch 1.27mm, IPC High Density)
footprint ADI-R-8_M (SOIC, 8-Leads, Body 4.9x3.9mm, Pitch 1.27mm, IPC Low Density)
pins on every part: 4 -V (power), 8 +V (power)
part A pins: 1 OUT A (out), 2 -IN A (in), 3 +IN A (in)
part B pins: 5 +IN B (in), 6 -IN B (in), 7 OUT B (out)

## AD8639ARZ-REEL7
designator U?
Double Channel Rail-to-Rail Operational Amplifier, 1.5 MHz BW, 2 V/us SR, Industrial, 8-pin SOIC (R-8), Reel; Generic Part Number: AD8639; Manufacturer: Analog Devices; PartNumber: AD8639ARZ-REEL7; Amplifiers Per Package: 2; Automotive Qualified: Yes; Input Bias Current: 1pA; Input Offset Voltage: 3uV; Iq/Amp: 1.5mA; Slew Rate: 2V/us; Small Signal Bandwidth: 1.5MHz; V Span Max: 16V; V Span Min: 5V; DatasheetVersion: Rev. F; PackageVersion: 060506-A; PackageReference: R-8; PackageDescription: 8-Pin Standard Small Outline Package, Body 3.9 x 4.9 mm, Pitch 1.27 mm; Supplier 1: Digi-Key; Supplier Part Number 1: AD8639ARZ-REEL7TR-ND; Supplier 2: Digi-Key; Supplier Part Number 2: AD8639ARZ-REEL7CT-ND; Supplier 3: Digi-Key; Supplier Part Number 3: AD8639ARZ-REEL7DKR-ND; Supplier 4: Newark; Supplier Part Number 4: 11N8886; Mounting Technology: Surface Mount; Code_JEDEC: MS-012-AA; ComponentLink1Description: Manufacturer URL; ComponentLink1URL: http://www.analog.com/en/index.html; ComponentLink2Description: Datasheet; ComponentLink2URL: http://www.analog.com/static/imported-files/data_sheets/AD8638_8639.pdf; ComponentLink3Description: Package Specification; ComponentLink3URL: http://www.analog.com/static/imported-files/packages/PKG_PDF/SOIC_Narrow%20(R)/R_8.pdf
footprint ADI-R-8_N (SOIC, 8-Leads, Body 4.9x3.9mm, Pitch 1.27mm, IPC Medium Density)
footprint ADI-R-8_L (SOIC, 8-Leads, Body 4.9x3.9mm, Pitch 1.27mm, IPC High Density)
footprint ADI-R-8_M (SOIC, 8-Leads, Body 4.9x3.9mm, Pitch 1.27mm, IPC Low Density)
pins on every part: 4 -V (power), 8 +V (power)
part A pins: 1 OUT A (out), 2 -IN A (in), 3 +IN A (in)
part B pins: 5 +IN B (in), 6 -IN B (in), 7 OUT B (out)

## AD8639WARZ
designator U?
Double Channel Rail-to-Rail Operational Amplifier, 1.5 MHz BW, 2 V/us SR, Automotive, 8-pin SOIC (R-8), Tube; Generic Part Number: AD8639; Manufacturer: Analog Devices; PartNumber: AD8639WARZ; Amplifiers Per Package: 2; Automotive Qualified: Yes; Input Bias Current: 1pA; Input Offset Voltage: 3uV; Iq/Amp: 1.5mA; Slew Rate: 2V/us; Small Signal Bandwidth: 1.5MHz; V Span Max: 16V; V Span Min: 5V; DatasheetVersion: Rev. F; PackageVersion: 060506-A; PackageReference: R-8; PackageDescription: 8-Pin Standard Small Outline Package, Body 3.9 x 4.9 mm, Pitch 1.27 mm; Supplier 1: Digi-Key; Supplier Part Number 1: AD8639WARZ-ND; Mounting Technology: Surface Mount; Code_JEDEC: MS-012-AA; ComponentLink1Description: Manufacturer URL; ComponentLink1URL: http://www.analog.com/en/index.html; ComponentLink2Description: Datasheet; ComponentLink2URL: http://www.analog.com/static/imported-files/data_sheets/AD8638_8639.pdf; ComponentLink3Description: Package Specification; ComponentLink3URL: http://www.analog.com/static/imported-files/packages/PKG_PDF/SOIC_Narrow%20(R)/R_8.pdf
footprint ADI-R-8_N (SOIC, 8-Leads, Body 4.9x3.9mm, Pitch 1.27mm, IPC Medium Density)
footprint ADI-R-8_L (SOIC, 8-Leads, Body 4.9x3.9mm, Pitch 1.27mm, IPC High Density)
footprint ADI-R-8_M (SOIC, 8-Leads, Body 4.9x3.9mm, Pitch 1.27mm, IPC Low Density)
pins on every part: 4 -V (power), 8 +V (power)
part A pins: 1 OUT A (out), 2 -IN A (in), 3 +IN A (in)
part B pins: 5 +IN B (in), 6 -IN B (in), 7 OUT B (out)

## AD8639WARZ-R7
designator U?
Double Channel Rail-to-Rail Operational Amplifier, 1.5 MHz BW, 2 V/us SR, Automotive, 8-pin SOIC (R-8), Reel; Generic Part Number: AD8639; Manufacturer: Analog Devices; PartNumber: AD8639WARZ-R7; Amplifiers Per Package: 2; Automotive Qualified: Yes; Input Bias Current: 1pA; Input Offset Voltage: 3uV; Iq/Amp: 1.5mA; Slew Rate: 2V/us; Small Signal Bandwidth: 1.5MHz; V Span Max: 16V; V Span Min: 5V; DatasheetVersion: Rev. F; PackageVersion: 060506-A; PackageReference: R-8; PackageDescription: 8-Pin Standard Small Outline Package, Body 3.9 x 4.9 mm, Pitch 1.27 mm; Supplier 1: Digi-Key; Supplier Part Number 1: AD8639WARZ-R7-ND; Mounting Technology: Surface Mount; Code_JEDEC: MS-012-AA; ComponentLink1Description: Manufacturer URL; ComponentLink1URL: http://www.analog.com/en/index.html; ComponentLink2Description: Datasheet; ComponentLink2URL: http://www.analog.com/static/imported-files/data_sheets/AD8638_8639.pdf; ComponentLink3Description: Package Specification; ComponentLink3URL: http://www.analog.com/static/imported-files/packages/PKG_PDF/SOIC_Narrow%20(R)/R_8.pdf
footprint ADI-R-8_N (SOIC, 8-Leads, Body 4.9x3.9mm, Pitch 1.27mm, IPC Medium Density)
footprint ADI-R-8_L (SOIC, 8-Leads, Body 4.9x3.9mm, Pitch 1.27mm, IPC High Density)
footprint ADI-R-8_M (SOIC, 8-Leads, Body 4.9x3.9mm, Pitch 1.27mm, IPC Low Density)
pins on every part: 4 -V (power), 8 +V (power)
part A pins: 1 OUT A (out), 2 -IN A (in), 3 +IN A (in)
part B pins: 5 +IN B (in), 6 -IN B (in), 7 OUT B (out)

## AD8639WARZ-RL
designator U?
Double Channel Rail-to-Rail Operational Amplifier, 1.5 MHz BW, 2 V/us SR, Automotive, 8-pin SOIC (R-8), Reel; Generic Part Number: AD8639; Manufacturer: Analog Devices; PartNumber: AD8639WARZ-RL; Amplifiers Per Package: 2; Automotive Qualified: Yes; Input Bias Current: 1pA; Input Offset Voltage: 3uV; Iq/Amp: 1.5mA; Slew Rate: 2V/us; Small Signal Bandwidth: 1.5MHz; V Span Max: 16V; V Span Min: 5V; DatasheetVersion: Rev. F; PackageVersion: 060506-A; PackageReference: R-8; PackageDescription: 8-Pin Standard Small Outline Package, Body 3.9 x 4.9 mm, Pitch 1.27 mm; Supplier 1: Digi-Key; Supplier Part Number 1: AD8639WARZ-RL-ND; Mounting Technology: Surface Mount; Code_JEDEC: MS-012-AA; ComponentLink1Description: Manufacturer URL; ComponentLink1URL: http://www.analog.com/en/index.html; ComponentLink2Description: Datasheet; ComponentLink2URL: http://www.analog.com/static/imported-files/data_sheets/AD8638_8639.pdf; ComponentLink3Description: Package Specification; ComponentLink3URL: http://www.analog.com/static/imported-files/packages/PKG_PDF/SOIC_Narrow%20(R)/R_8.pdf
footprint ADI-R-8_N (SOIC, 8-Leads, Body 4.9x3.9mm, Pitch 1.27mm, IPC Medium Density)
footprint ADI-R-8_L (SOIC, 8-Leads, Body 4.9x3.9mm, Pitch 1.27mm, IPC High Density)
footprint ADI-R-8_M (SOIC, 8-Leads, Body 4.9x3.9mm, Pitch 1.27mm, IPC Low Density)
pins on every part: 4 -V (power), 8 +V (power)
part A pins: 1 OUT A (out), 2 -IN A (in), 3 +IN A (in)
part B pins: 5 +IN B (in), 6 -IN B (in), 7 OUT B (out)

## AD8641AKSZ-R2
designator U?
Single Channel Very Low Input Bias Current Operational Amplifier, 3 MHz BW, 2 V/us SR, Industrial, 5-pin SOT23 (KS-5), Reel; Generic Part Number: AD8641; Manufacturer: Analog Devices; PartNumber: AD8641AKSZ-R2; Amplifiers Per Package: 1; Input Bias Current: 250fA; Input Offset Voltage: 50uV; Iq/Amp: 250µA; Slew Rate: 2V/us; Small Signal Bandwidth: 3MHz; V Span Max: 26V; V Span Min: 5V; DatasheetVersion: Rev. E; PackageVersion: 072809-A; PackageReference: KS-5; PackageDescription: 5-Pin Thin Shrink Small Outline Transistor Package, Body 2 x 1.25 mm, Pitch 0.65 mm; Supplier 1: Digi-Key; Supplier Part Number 1: AD8641AKSZ-R2-ND; Supplier 2: Newark; Supplier Part Number 2: 19M8935; Mounting Technology: Surface Mount; Code_JEDEC: MO-203-AA; ComponentLink1Description: Manufacturer URL; ComponentLink1URL: http://www.analog.com/en/index.html; ComponentLink2Description: Datasheet; ComponentLink2URL: http://www.analog.com/static/imported-files/data_sheets/AD8641_8642_8643.pdf; ComponentLink3Description: Package Specification; ComponentLink3URL: http://www.analog.com/static/imported-files/packages/PKG_PDF/SC70(KS)/KS_5.pdf; ComponentLink4Description: Reference Circuit; ComponentLink4URL: http://www.analog.com/en/all-operational-amplifiers-op-amps/operational-amplifiers-op-amps/ad8641/products/product.html#product-recommendations
footprint ADI-KS-5_N (SOT23, 5-Leads, Body 2x1.25mm, Pitch 0.65mm, IPC Medium Density)
footprint ADI-KS-5_L (SOT23, 5-Leads, Body 2x1.25mm, Pitch 0.65mm, IPC High Density)
footprint ADI-KS-5_M (SOT23, 5-Leads, Body 2x1.25mm, Pitch 0.65mm, IPC Low Density)
pins: 1 OUT (out), 2 VEE (power), 3 +IN (in), 4 -IN (in), 5 VCC (power)

## AD8641AKSZ-REEL
designator U?
Single Channel Very Low Input Bias Current Operational Amplifier, 3 MHz BW, 2 V/us SR, Industrial, 5-pin SOT23 (KS-5), Reel; Generic Part Number: AD8641; Manufacturer: Analog Devices; PartNumber: AD8641AKSZ-REEL; Amplifiers Per Package: 1; Input Bias Current: 250fA; Input Offset Voltage: 50uV; Iq/Amp: 250µA; Slew Rate: 2V/us; Small Signal Bandwidth: 3MHz; V Span Max: 26V; V Span Min: 5V; DatasheetVersion: Rev. E; PackageVersion: 072809-A; PackageReference: KS-5; PackageDescription: 5-Pin Thin Shrink Small Outline Transistor Package, Body 2 x 1.25 mm, Pitch 0.65 mm; Supplier 1: Digi-Key; Supplier Part Number 1: AD8641AKSZ-REEL-ND; Mounting Technology: Surface Mount; Code_JEDEC: MO-203-AA; ComponentLink1Description: Manufacturer URL; ComponentLink1URL: http://www.analog.com/en/index.html; ComponentLink2Description: Datasheet; ComponentLink2URL: http://www.analog.com/static/imported-files/data_sheets/AD8641_8642_8643.pdf; ComponentLink3Description: Package Specification; ComponentLink3URL: http://www.analog.com/static/imported-files/packages/PKG_PDF/SC70(KS)/KS_5.pdf; ComponentLink4Description: Reference Circuit; ComponentLink4URL: http://www.analog.com/en/all-operational-amplifiers-op-amps/operational-amplifiers-op-amps/ad8641/products/product.html#product-recommendations
footprint ADI-KS-5_N (SOT23, 5-Leads, Body 2x1.25mm, Pitch 0.65mm, IPC Medium Density)
footprint ADI-KS-5_L (SOT23, 5-Leads, Body 2x1.25mm, Pitch 0.65mm, IPC High Density)
footprint ADI-KS-5_M (SOT23, 5-Leads, Body 2x1.25mm, Pitch 0.65mm, IPC Low Density)
pins: 1 OUT (out), 2 VEE (power), 3 +IN (in), 4 -IN (in), 5 VCC (power)

## AD8641AKSZ-REEL7
designator U?
Single Channel Very Low Input Bias Current Operational Amplifier, 3 MHz BW, 2 V/us SR, Industrial, 5-pin SOT23 (KS-5), Reel; Generic Part Number: AD8641; Manufacturer: Analog Devices; PartNumber: AD8641AKSZ-REEL7; Amplifiers Per Package: 1; Input Bias Current: 250fA; Input Offset Voltage: 50uV; Iq/Amp: 250µA; Slew Rate: 2V/us; Small Signal Bandwidth: 3MHz; V Span Max: 26V; V Span Min: 5V; DatasheetVersion: Rev. E; PackageVersion: 072809-A; PackageReference: KS-5; PackageDescription: 5-Pin Thin Shrink Small Outline Transistor Package, Body 2 x 1.25 mm, Pitch 0.65 mm; Supplier 1: Digi-Key; Supplier Part Number 1: AD8641AKSZ-REEL7TR-ND; Supplier 2: Digi-Key; Supplier Part Number 2: AD8641AKSZ-REEL7CT-ND; Supplier 3: Digi-Key; Supplier Part Number 3: AD8641AKSZ-REEL7DKR-ND; Supplier 4: Newark; Supplier Part Number 4: 59K7022; Mounting Technology: Surface Mount; Code_JEDEC: MO-203-AA; ComponentLink1Description: Manufacturer URL; ComponentLink1URL: http://www.analog.com/en/index.html; ComponentLink2Description: Datasheet; ComponentLink2URL: http://www.analog.com/static/imported-files/data_sheets/AD8641_8642_8643.pdf; ComponentLink3Description: Package Specification; ComponentLink3URL: http://www.analog.com/static/imported-files/packages/PKG_PDF/SC70(KS)/KS_5.pdf; ComponentLink4Description: Reference Circuit; ComponentLink4URL: http://www.analog.com/en/all-operational-amplifiers-op-amps/operational-amplifiers-op-amps/ad8641/products/product.html#product-recommendations
footprint ADI-KS-5_N (SOT23, 5-Leads, Body 2x1.25mm, Pitch 0.65mm, IPC Medium Density)
footprint ADI-KS-5_L (SOT23, 5-Leads, Body 2x1.25mm, Pitch 0.65mm, IPC High Density)
footprint ADI-KS-5_M (SOT23, 5-Leads, Body 2x1.25mm, Pitch 0.65mm, IPC Low Density)
pins: 1 OUT (out), 2 VEE (power), 3 +IN (in), 4 -IN (in), 5 VCC (power)

## AD8641ARZ
designator U?
Single Channel Very Low Input Bias Current Operational Amplifier, 3 MHz BW, 2 V/us SR, Industrial, 8-pin SOIC (R-8), Tube; Generic Part Number: AD8641; Manufacturer: Analog Devices; PartNumber: AD8641ARZ; Amplifiers Per Package: 1; Input Bias Current: 250fA; Input Offset Voltage: 50uV; Iq/Amp: 250µA; Slew Rate: 2V/us; Small Signal Bandwidth: 3MHz; V Span Max: 26V; V Span Min: 5V; DatasheetVersion: Rev. E; PackageVersion: 060506-A; PackageReference: R-8; PackageDescription: 8-Pin Standard Small Outline Package, Body 3.9 x 4.9 mm, Pitch 1.27 mm; Supplier 1: Digi-Key; Supplier Part Number 1: AD8641ARZ-ND; Supplier 2: Farnell; Supplier Part Number 2: 1078273; Supplier 3: Newark; Supplier Part Number 3: 19M0985; Mounting Technology: Surface Mount; Code_JEDEC: MS-012-AA; ComponentLink1Description: Manufacturer URL; ComponentLink1URL: http://www.analog.com/en/index.html; ComponentLink2Description: Datasheet; ComponentLink2URL: http://www.analog.com/static/imported-files/data_sheets/AD8641_8642_8643.pdf; ComponentLink3Description: Package Specification; ComponentLink3URL: http://www.analog.com/static/imported-files/packages/PKG_PDF/SOIC_Narrow%20(R)/R_8.pdf; ComponentLink4Description: Reference Circuit; ComponentLink4URL: http://www.analog.com/en/all-operational-amplifiers-op-amps/operational-amplifiers-op-amps/ad8641/products/product.html#product-recommendations
footprint ADI-R-8_N (SOIC, 8-Leads, Body 4.9x3.9mm, Pitch 1.27mm, IPC Medium Density)
footprint ADI-R-8_L (SOIC, 8-Leads, Body 4.9x3.9mm, Pitch 1.27mm, IPC High Density)
footprint ADI-R-8_M (SOIC, 8-Leads, Body 4.9x3.9mm, Pitch 1.27mm, IPC Low Density)
part A pins: 2 -IN (in), 3 +IN (in), 4 VEE (power), 6 OUT (out), 7 VCC (power)
part B pins: 1 NC, 5 NC, 8 NC